# EAGLE library part SOFTTOUCH (library Mechanical)
Agilent Soft Touch Probing Connector
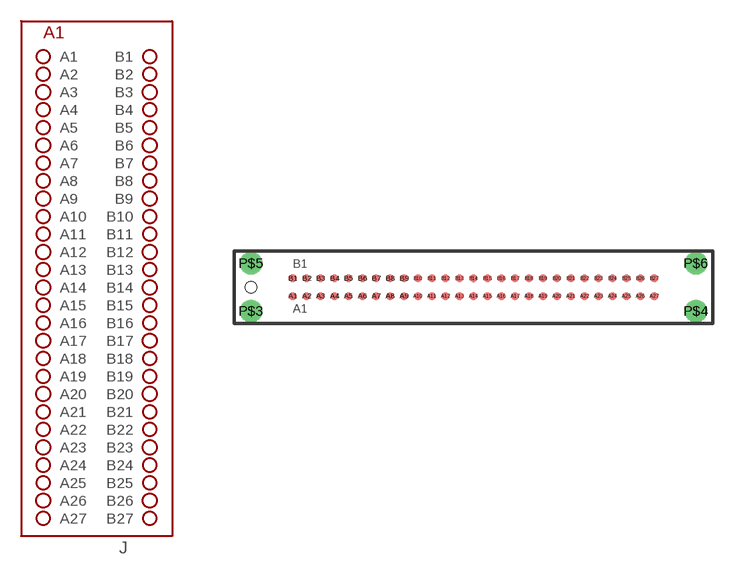
[diagram p51: symbol with the pads of SOFT-54; footprint SOFT-54]

Designator prefix J

## SOFTTOUCH  [SOFT-54]
A1  A1
A2  A2
A3  A3
A4  A4
A5  A5
A6  A6
A7  A7
A8  A8
A9  A9
A10  A10
A11  A11
A12  A12
A13  A13
A14  A14
A15  A15
A16  A16
A17  A17
A18  A18
A19  A19
A20  A20
A21  A21
A22  A22
A23  A23
A24  A24
A25  A25
A26  A26
A27  A27
B1  B1
B2  B2
B3  B3
B4  B4
B5  B5
B6  B6
B7  B7
B8  B8
B9  B9
B10  B10
B11  B11
B12  B12
B13  B13
B14  B14
B15  B15
B16  B16
B17  B17
B18  B18
B19  B19
B20  B20
B21  B21
B22  B22
B23  B23
B24  B24
B25  B25  pas
B26  B26
B27  B27

## Footprint SOFT-54 (pad centres in mm)
54 pin pro soft touch connector
smd 0.58 x 0.58: A1 -13,-0.635; A2 -12,-0.635; A3 -11,-0.635; A4 -10,-0.635; A5 -9,-0.635; A6 -8,-0.635; A7 -7,-0.635; A8 -6,-0.635; A9 -5,-0.635; A10 -4,-0.635; A11 -3,-0.635; A12 -2,-0.635; A13 -1,-0.635; A14 0,-0.635; A15 1,-0.635; A16 2,-0.635; A17 3,-0.635; A18 4,-0.635; A19 5,-0.635; A20 6,-0.635; A21 7,-0.635; A22 8,-0.635; A23 9,-0.635; A24 10,-0.635; A25 11,-0.635; A26 12,-0.635; A27 13,-0.635; B1 -13,0.635; B2 -12,0.635; B3 -11,0.635; B4 -10,0.635; B5 -9,0.635; B6 -8,0.635; B7 -7,0.635; B8 -6,0.635; B9 -5,0.635; B10 -4,0.635; B11 -3,0.635; B12 -2,0.635; B13 -1,0.635; B14 0,0.635; B15 1,0.635; B16 2,0.635; B17 3,0.635; B18 4,0.635; B19 5,0.635; B20 6,0.635; B21 7,0.635; B22 8,0.635; B23 9,0.635; B24 10,0.635; B25 11,0.635; B26 12,0.635; B27 13,0.635
drill 1.067: P$3 -16,-1.72; P$4 16,-1.72; P$5 -16,1.72; P$6 16,1.72
hole 0.813 at -16,0